# Altium footprint library SPX2954M3-L-3-3TR.PcbLib: 3 footprints
Each footprint in its own frame and in the unit in brackets; x right, y up, seen from the top. Pads: shape width x height; smd on the part's side, far side on the other; paste and mask are expansions set on the pad; w line width, h text height; cw(c..) or ccw(c..) is an arc to the next point about the centre after c.
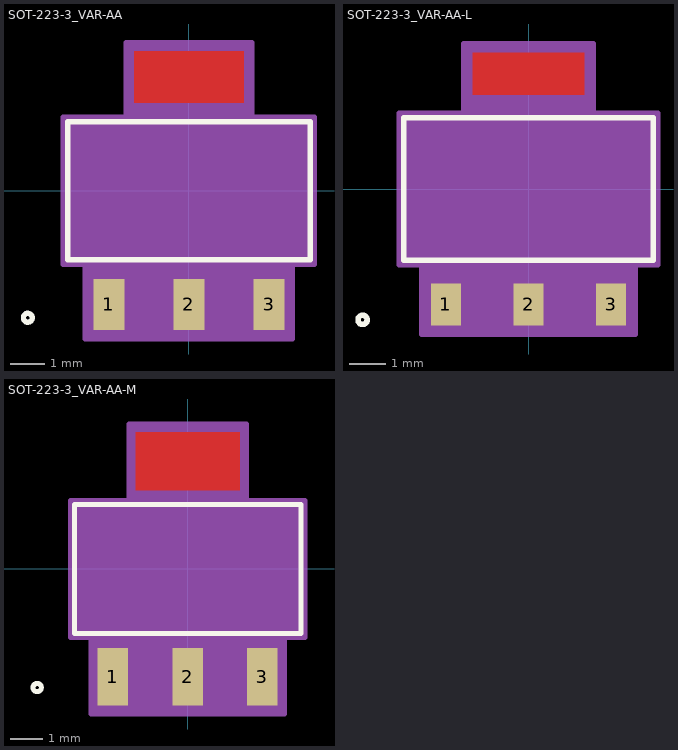
[diagram p0: the footprints below, top view; thin cyan lines are the x and y axes]

## SOT-223-3_VAR-AA [mil]
pads (3):
  rect 35x58 smd paste+0 mask+0: 1(-90.55,-128.5) 2(0,-128.5) 3(90.55,-128.5)
Top Layer:
  region: 62,99.5 62,157.5 -62,157.5 -62,99.5
Top Overlay:
  circle w6: c-182,-143.5 r5
  lines w6: -137,-78 137,-78 137,78 -137,78 -137,-78
Top Paste:
  region: 62,99.5 62,157.5 -62,157.5 -62,99.5
Top Solder:
  region: 63,85.5 63,171.5 -63,171.5 -63,85.5
Mechanical 13:
  circle w0: c-122,-63 r5
  lines w1: -132,-73 132,-73 132,73 -132,73 -132,-73 ; -107.05,-143.5 -107.05,-73 -74.05,-73 -74.05,-143.5 -107.05,-143.5 ; -61,73 61,73 61,143.5 -61,143.5 -61,73 ; -16.5,-143.5 -16.5,-73 16.5,-73 16.5,-143.5 -16.5,-143.5 ; 74.05,-143.5 74.05,-73 107.05,-73 107.05,-143.5 74.05,-143.5
Mechanical 15:
  region: -142,-83 -142,83 -71,83 -71,167.5 71,167.5 71,83 142,83 142,-83 117.05,-83 117.05,-167.5 -117.05,-167.5 -117.05,-83
  lines w6: -142,-83 -142,83 -71,83 -71,167.5 71,167.5 71,83 142,83 142,-83 117.05,-83 117.05,-167.5 -117.05,-167.5 -117.05,-83 -142,-83
3D body "SOT-223-3_VAR-AA.step": height 71.1, standoff 0, extent -132.01,-143.5 132.01,143.5

## SOT-223-3_VAR-AA-L [mil]
pads (3):
  rect 33x46 smd paste+0 mask+0: 1(-90.55,-126.5) 2(0,-126.5) 3(90.55,-126.5)
Top Layer:
  region: 61,103.5 61,149.5 -61,149.5 -61,103.5
Top Overlay:
  circle w6: c-182,-143.5 r5
  lines w6: -137,-78 137,-78 137,78 -137,78 -137,-78
Top Paste:
  region: 61,103.5 61,149.5 -61,149.5 -61,103.5
Top Solder:
  region: 61,93.5 61,155.5 -61,155.5 -61,93.5
Mechanical 13:
  circle w0: c-122,-63 r5
  lines w1: -132,-73 132,-73 132,73 -132,73 -132,-73 ; -107.05,-143.5 -107.05,-73 -74.05,-73 -74.05,-143.5 -107.05,-143.5 ; -61,73 61,73 61,143.5 -61,143.5 -61,73 ; -16.5,-143.5 -16.5,-73 16.5,-73 16.5,-143.5 -16.5,-143.5 ; 74.05,-143.5 74.05,-73 107.05,-73 107.05,-143.5 74.05,-143.5
Mechanical 15:
  region: -142,-83 -142,83 -71,83 -71,159.5 71,159.5 71,83 142,83 142,-83 117.05,-83 117.05,-159.5 -117.05,-159.5 -117.05,-83
  lines w6: -142,-83 -142,83 -71,83 -71,159.5 71,159.5 71,83 142,83 142,-83 117.05,-83 117.05,-159.5 -117.05,-159.5 -117.05,-83 -142,-83
3D body "SOT-223-3_VAR-AA.step": height 71.1, standoff 0, extent -132.01,-143.5 132.01,143.5

## SOT-223-3_VAR-AA-M [mil]
pads (3):
  rect 37x70 smd paste+0 mask+0: 1(-90.55,-130.5) 2(0,-130.5) 3(90.55,-130.5)
Top Layer:
  region: 63,95.5 63,165.5 -63,165.5 -63,95.5
Top Overlay:
  circle w6: c-182,-143.5 r5
  lines w6: -137,-78 137,-78 137,78 -137,78 -137,-78
Top Paste:
  region: 63,95.5 63,165.5 -63,165.5 -63,95.5
Top Solder:
  region: 65,77.5 65,187.5 -65,187.5 -65,77.5
Mechanical 13:
  circle w0: c-122,-63 r5
  lines w1: -132,-73 132,-73 132,73 -132,73 -132,-73 ; -107.05,-143.5 -107.05,-73 -74.05,-73 -74.05,-143.5 -107.05,-143.5 ; -61,73 61,73 61,143.5 -61,143.5 -61,73 ; -16.5,-143.5 -16.5,-73 16.5,-73 16.5,-143.5 -16.5,-143.5 ; 74.05,-143.5 74.05,-73 107.05,-73 107.05,-143.5 74.05,-143.5
Mechanical 15:
  region: -142,-83 -142,83 -71,83 -71,175.5 71,175.5 71,83 142,83 142,-83 117.05,-83 117.05,-175.5 -117.05,-175.5 -117.05,-83
  lines w6: -142,-83 -142,83 -71,83 -71,175.5 71,175.5 71,83 142,83 142,-83 117.05,-83 117.05,-175.5 -117.05,-175.5 -117.05,-83 -142,-83
3D body "SOT-223-3_VAR-AA.step": height 71.1, standoff 0, extent -132.01,-143.5 132.01,143.5